# Altium footprint library Components - 31.03.22 - 07.08.PcbLib: 1 footprints
Each footprint in its own frame and in the unit in brackets; x right, y up, seen from the top. Pads: shape width x height; smd on the part's side, far side on the other; paste and mask are expansions set on the pad; w line width, h text height; cw(c..) or ccw(c..) is an arc to the next point about the centre after c.
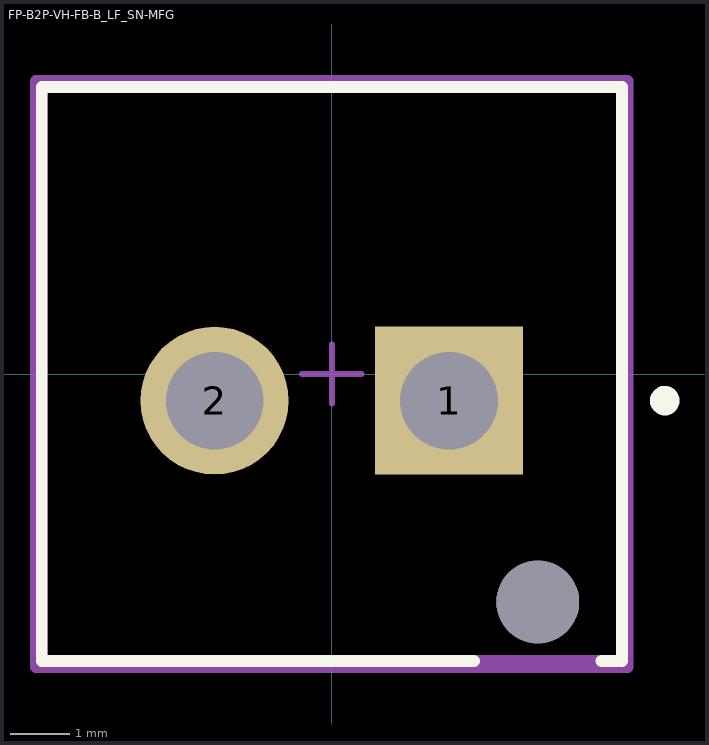
[diagram p0: the footprint, top view; thin cyan lines are the x and y axes]

## FP-B2P-VH-FB-B_LF_SN-MFG [mm]
pads (3):
  rect 2.5x2.5 hole 1.65 paste-1000 mask+0: 1(1.98,-0.45)
  round 2.5 hole 1.65 paste-1000 mask+0: 2(-1.98,-0.45)
  round 1.4 hole 1.4 unplated paste-1000 mask+0: ""(3.48,-3.85)
Top Overlay:
  circle w0.25: c5.625,-0.45 r0.125
  lines w0.2: 2.405,-4.85 -4.9,-4.85 -4.9,4.85 4.9,4.85 4.9,-4.85 4.555,-4.85
Top Assembly:
  lines w0.2: -5,-4.95 -5,4.95 5,4.95 5,-4.95 -5,-4.95
  text ".Designator" at 0,0.188 h1
Top 3D Body:
  lines w0.2: -4.9,-4.85 -4.9,4.85 4.9,4.85 4.9,-4.85 -4.9,-4.85
Top Courtyard:
  lines w0.2: -5,-4.95 -5,4.95 5,4.95 5,-4.95 -5,-4.95
Top Component Center:
  lines w0.1: -0.5,0 0.5,0 ; 0,-0.5 0,0.5
3D body "Conn_JST_B2P-VH-FB-B_LF_SN_eec.STEP": height 0.25, standoff 0, extent -5,-4.95 5,4.95